# Altium footprint library PcbLib1-IECA-01-21.PcbLib: 12 footprints
Each footprint in its own frame and in the unit in brackets; x right, y up, seen from the top. Pads: shape width x height; smd on the part's side, far side on the other; paste and mask are expansions set on the pad; w line width, h text height; cw(c..) or ccw(c..) is an arc to the next point about the centre after c.
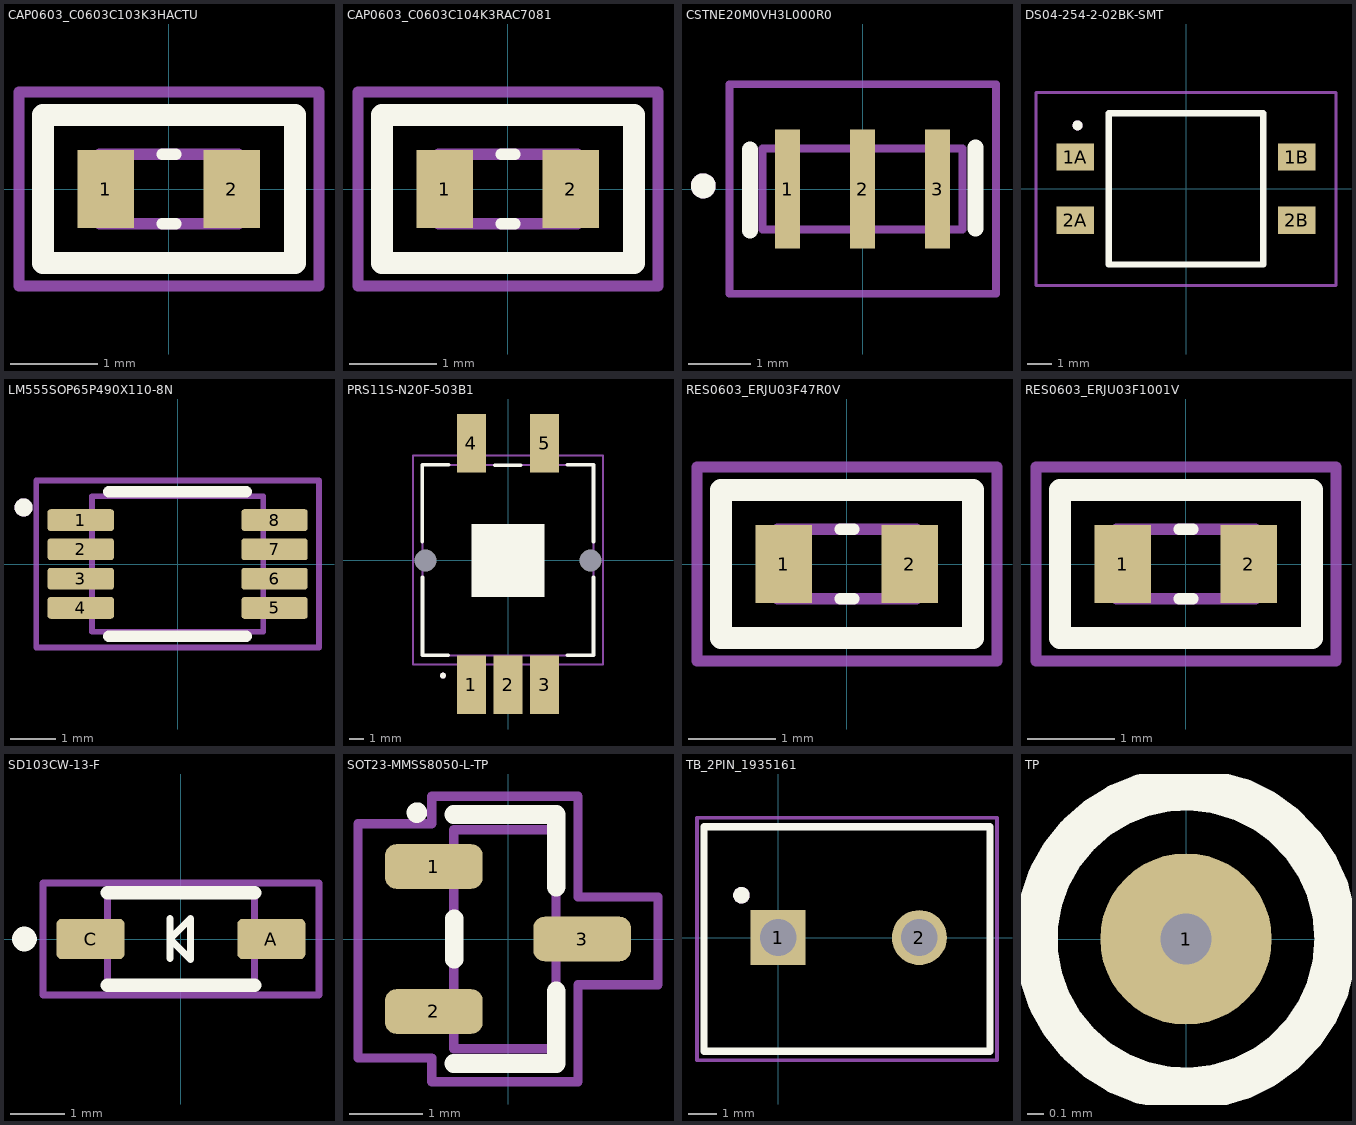
[diagram p0: the footprints below, top view; thin cyan lines are the x and y axes]

## CAP0603_C0603C103K3HACTU [mm] "CAP CER 10000PF 25V X8R 0603"
height 0.87
pads (2):
  rect 0.65x0.902 smd mask+0.025: 1(-0.725,0) 2(0.725,0)
Top Overlay:
  lines w0.127: -0.08,-0.4 0.08,-0.4 ; -0.08,0.4 0.08,0.4
  lines w0.254: -1.45,-0.85 1.45,-0.85 1.45,0.85 -1.45,0.85 -1.45,-0.85
Top Designator (Mech7):
  text ".Designator" at -0.009,1.696 h0.76
Mechanical 13:
  lines w0.127: -0.8,-0.4 0.8,-0.4 0.8,0.4 -0.8,0.4 -0.8,-0.4
Mechanical 15:
  lines w0.127: -1.725,-1.118 1.727,-1.118 1.727,1.118 -1.725,1.118 -1.725,-1.118
3D body "107(0603)-0800T.x_t": height 0.8, standoff 0, extent -0.8,-0.4 0.8,0.4

## CAP0603_C0603C104K3RAC7081 [mm] "CAP CER 0.1UF 25V X7R 0603"
height 0.87
pads (2):
  rect 0.65x0.902 smd mask+0.025: 1(-0.725,0) 2(0.725,0)
Top Overlay:
  lines w0.127: -0.08,-0.4 0.08,-0.4 ; -0.08,0.4 0.08,0.4
  lines w0.254: -1.45,-0.85 -1.45,0.85 1.45,0.85 1.45,-0.85 -1.45,-0.85
Top Designator (Mech7):
  text ".Designator" at 0.016,1.671 h0.76
Mechanical 13:
  lines w0.127: -0.8,-0.4 -0.8,0.4 0.8,0.4 0.8,-0.4 -0.8,-0.4
Mechanical 15:
  lines w0.127: -1.725,-1.118 -1.725,1.118 1.727,1.118 1.727,-1.118 -1.725,-1.118
3D body "107(0603)-0800T.x_t": height 0.8, standoff 0, extent -0.8,-0.4 0.8,0.4

## CSTNE20M0VH3L000R0 [mm] "20 MHz Ceramic Resonator Built in Capacitor 15 pF ±0.11% 40 Ohms -40°C ~ 85°C Surface Mount"
height 0.001
pads (3):
  rect 0.4x1.9 smd: 1(-1.2,0) 2(0,0) 3(1.2,0)
Top Overlay:
  circle w0.2: c-2.55,0.051 r0.1
  lines w0.254: -1.803,-0.665 -1.803,0.635 ; 1.803,-0.635 1.803,0.665
Top Designator (Mech7):
  text ".Designator" at -2.067,2.382 h0.76
Mechanical 13:
  circle w0.2: c-2.55,0.051 r0.1
  lines w0.127: -1.6,-0.65 -1.6,0.65 1.6,0.65 1.6,-0.65 -1.6,-0.65
Mechanical 15:
  lines w0.127: -2.134,-1.676 -2.134,1.676 2.134,1.676 2.134,-1.676 -2.134,-1.676
3D body "step_temp.STEP": height 1, standoff 0, extent -1.6,-0.65 1.6,0.65

## DS04-254-2-02BK-SMT [mm] "Dip Switch SPST 2 Position Surface Mount Slide (Standard) Actuator 25mA 24VDC"
height 4.25
pads (4):
  rect 1.5x1.1 smd mask+0.102: 1A(-4.45,1.27)
  rect 1.5x1.1 smd: 1B(4.45,1.27) 2A(-4.45,-1.27) 2B(4.45,-1.27)
Top Overlay:
  circle w0.2: c-4.353,2.538 r0.1
  lines w0.254: -3.1,-3.04 -3.1,3.023 3.1,3.023 3.1,-3.04 -3.1,-3.04
Top Designator (Mech7):
  text ".Designator" at -1.684,4.375 h0.76
Mechanical 13:
  circle w0.2: c-4.353,2.538 r0.1
  lines w0.127: -3.1,-3.04 -3.1,3.04 3.1,3.04 3.1,-3.04 -3.1,-3.04
Mechanical 15:
  lines w0.127: -6.02,-3.886 6.02,-3.886 6.02,3.861 -6.02,3.861 -6.02,-3.886
3D body "CUI_DEVICES_DS04-254-2-02BK-SMT.step": height 4.01, standoff 0.01, extent -4.978,-3.065 4.922,3.015

## LM555SOP65P490X110-8N [mm] "IC OSC SGL TIMER 100KHZ 8VSSOP"
height 1.75
pads (8):
  rrect25% 1.47x0.48 smd mask+0.004: 1(-2.15,0.975) 2(-2.15,0.325) 3(-2.15,-0.325) 4(-2.15,-0.975) 5(2.15,-0.975) 6(2.15,-0.325) 7(2.15,0.325) 8(2.15,0.975)
Top Overlay:
  circle w0.2: c-3.42,1.255 r0.1
  lines w0.254: -1.525,-1.6 1.525,-1.6 ; -1.525,1.6 1.525,1.6
Top Designator (Mech7):
  text ".Designator" at -0.034,2.446 h0.76
Mechanical 13:
  circle w0.2: c-3.42,1.255 r0.1
  lines w0.127: -1.9,-1.5 1.9,-1.5 1.9,1.5 -1.9,1.5 -1.9,-1.5
Mechanical 15:
  lines w0.127: -3.135,-1.85 3.135,-1.85 3.135,1.85 -3.135,1.85 -3.135,-1.85
3D body "LM555SOP123.STEP": height 1.08, standoff -0.02, extent -2.45,-1.5 2.45,1.5

## PRS11S-N20F-503B1 [mm] "POT 50K OHM 1/20W CARBON LINEAR"
height 20
pads (7):
  rect 2x4 smd mask+0.102: 1(-2.5,-8.5) 2(0,-8.5) 3(2.5,-8.5) 4(-2.5,8) 5(2.5,8)
  round 0 hole 1.5 unplated: S1(-5.65,0) S2(5.65,0)
Top Overlay:
  circle w0.2: c-4.445,-7.874 r0.1
  rectangle: -2.5,-2.5 2.5,2.5
  lines w0.254: -5.853,-6.477 -4.075,-6.477 ; -5.85,-6.477 -5.85,-1.168 ; -5.85,1.289 -5.85,6.525 ; -4.072,6.525 -5.85,6.525 ; -0.903,6.5 0.875,6.5 ; 4.072,-6.477 5.85,-6.477 5.85,-1.168 ; 4.072,6.525 5.85,6.525 5.85,1.289 ; -5.85,6.525 -5.85,6.525
Top Designator (Mech7):
  text ".Designator" at 0.016,10.696 h0.76
Mechanical 13:
  circle w0.2: c-4.445,-7.874 r0.1
  lines w0.127: -5.85,-6.493 5.85,-6.493 5.85,6.507 -5.85,6.507 -5.85,-6.493
Mechanical 15:
  lines w0.127: -6.485,-7.112 -6.485,7.163 ; -6.475,-7.112 6.475,-7.112 ; -6.475,7.163 6.475,7.163 ; 6.485,-7.112 6.485,7.163
3D body "prs11s-n20f-503b1.SLDPRT": height 20.03, standoff -1.36, extent -5.85,-9.526 5.85,8.975

## RES0603_ERJU03F47R0V [mm] "RES 47 OHM 1% 1/10W 0603 SMD"
height 0.55
pads (2):
  rect 0.65x0.902 smd mask+0.025: 1(-0.725,0) 2(0.725,0)
Top Overlay:
  lines w0.127: -0.08,-0.4 0.08,-0.4 ; -0.08,0.4 0.08,0.4
  lines w0.254: -1.45,-0.85 1.45,-0.85 1.45,0.85 -1.45,0.85 -1.45,-0.85
Top Designator (Mech7):
  text ".Designator" at -0.034,1.721 h0.76
Mechanical 13:
  lines w0.127: -0.8,-0.4 0.8,-0.4 0.8,0.4 -0.8,0.4 -0.8,-0.4
Mechanical 15:
  lines w0.127: -1.725,-1.118 1.727,-1.118 1.727,1.118 -1.725,1.118 -1.725,-1.118
3D body "47 ohm.x_t": height 0.46, standoff 0, extent -0.8,-0.4 0.8,0.4

## RES0603_ERJU03F1001V [mm] "RES 1K OHM 1% 1/10W 0603 SMD"
height 0.55
pads (2):
  rect 0.65x0.902 smd mask+0.025: 1(-0.725,0) 2(0.725,0)
Top Overlay:
  lines w0.127: -0.08,-0.4 0.08,-0.4 ; -0.08,0.4 0.08,0.4
  lines w0.254: -1.45,-0.85 1.45,-0.85 1.45,0.85 -1.45,0.85 -1.45,-0.85
Top Designator (Mech7):
  text ".Designator" at 0.016,1.721 h0.76
Mechanical 13:
  lines w0.127: -0.8,-0.4 0.8,-0.4 0.8,0.4 -0.8,0.4 -0.8,-0.4
Mechanical 15:
  lines w0.127: -1.725,-1.118 1.727,-1.118 1.727,1.118 -1.725,1.118 -1.725,-1.118
3D body "1K.x_t": height 0.46, standoff 0, extent -0.8,-0.4 0.8,0.4

## SD103CW-13-F [mm] "DIODE SCHOTTKY 20V 350MA SOD123"
height 1.45
pads (2):
  rrect25% 1.25x0.74 smd mask+0.025: A(1.66,0) C(-1.66,0)
Top Overlay:
  circle w0.254: c-2.875,0 r0.1
  lines w0.127: -0.2,-0.362 -0.2,0.375 ; -0.2,0 0.175,0.375 0.175,-0.375 -0.2,0
  lines w0.254: -1.35,-0.85 1.35,-0.85 ; -1.35,0.85 1.35,0.85
Top Designator (Mech7):
  text ".Designator" at -0.059,1.596 h0.76
Mechanical 13:
  circle w0.2: c-2.875,0 r0.1
  lines w0.127: -1.35,-0.85 -1.35,0.85 1.35,0.85 1.35,-0.85 -1.35,-0.85
Mechanical 15:
  lines w0.127: -2.535,-1.025 -2.535,1.025 2.535,1.025 2.535,-1.025 -2.535,-1.025
3D body "SOD-123.step": height 1.36, standoff 0, extent -1.925,-0.85 1.925,0.85

## SOT23-MMSS8050-L-TP [mil] "TRANS NPN 25V 1.5A SOT-23"
height 43.31
pads (3):
  rrect50% 52.5x24.02 smd mask+1: 1(-39.89,39) 2(-39.89,-39) 3(39.89,0)
Top Overlay:
  circle w5.51: c-49,68 r2.76
  lines w10: -29.26,-67 25.85,-67 25.85,-28 ; -29.26,67 25.85,67 25.85,28 ; -29,-11 -29,11
Top Designator (Mech7):
  text ".Designator" at -4.28,100.24 h30
Mechanical 13:
  lines w5: -29.26,-59 -29.26,58.86 25.85,58.86 25.85,-59 -29.26,-59
Mechanical 15:
  lines w5: -80.71,-63.98 -41.07,-63.98 -41.07,-76.77 37.67,-76.77 37.67,-24.61 80.71,-24.61 80.71,22.64 37.67,22.64 37.67,76.77 -41.07,76.77 -41.07,62.01 -80.71,62.01 -80.71,-63.98
3D body "SOT23-3.stp": height 46.44, standoff -0.2, extent -55.82,-59.06 55.82,59.06

## TB_2PIN_1935161 [mm] "TERM BLK 2POS SIDE ENTRY 5MM PCB"
height 11.4
pads (2):
  rect 1.95x1.95 hole 1.3: 1(0,0)
  round 1.95 hole 1.3: 2(5,0)
Top Overlay:
  circle w0.305: c-1.3,1.5 r0.14
  lines w0.254: -2.625,-4.025 7.5,-4.025 7.5,3.925 -2.625,3.925 -2.625,-4.025
Top Designator (Mech7):
  text ".Designator" at 2.441,4.896 h0.76
Mechanical 13:
  circle w0.305: c-1.3,1.5 r0.14
  lines w0.127: -2.625,-4.025 7.5,-4.025 7.5,3.925 -2.625,3.925 -2.625,-4.025
Mechanical 15:
  lines w0.127: -2.875,-4.35 -2.875,4.25 7.75,4.25 7.75,-4.35 -2.875,-4.35
3D body "Screw Terminal Block 5mm Blue 2-way.step": height 10, standoff -2, extent -2.65,-4.025 7.5,3.975

## TP [mil]
pads (1):
  round 40 hole 12 mask+4: 1(0,0)
Top Overlay:
  circle w10: c0,0 r35
Top Designator (Mech7):
  text ".Designator" at -1.33,53.98 h30